# Altium footprint library BSPO.PcbLib: 178 footprints (part 5 of 12)
Each footprint in its own frame and in the unit in brackets; x right, y up, seen from the top. Pads: shape width x height; smd on the part's side, far side on the other; paste and mask are expansions set on the pad; w line width, h text height; cw(c..) or ccw(c..) is an arc to the next point about the centre after c.
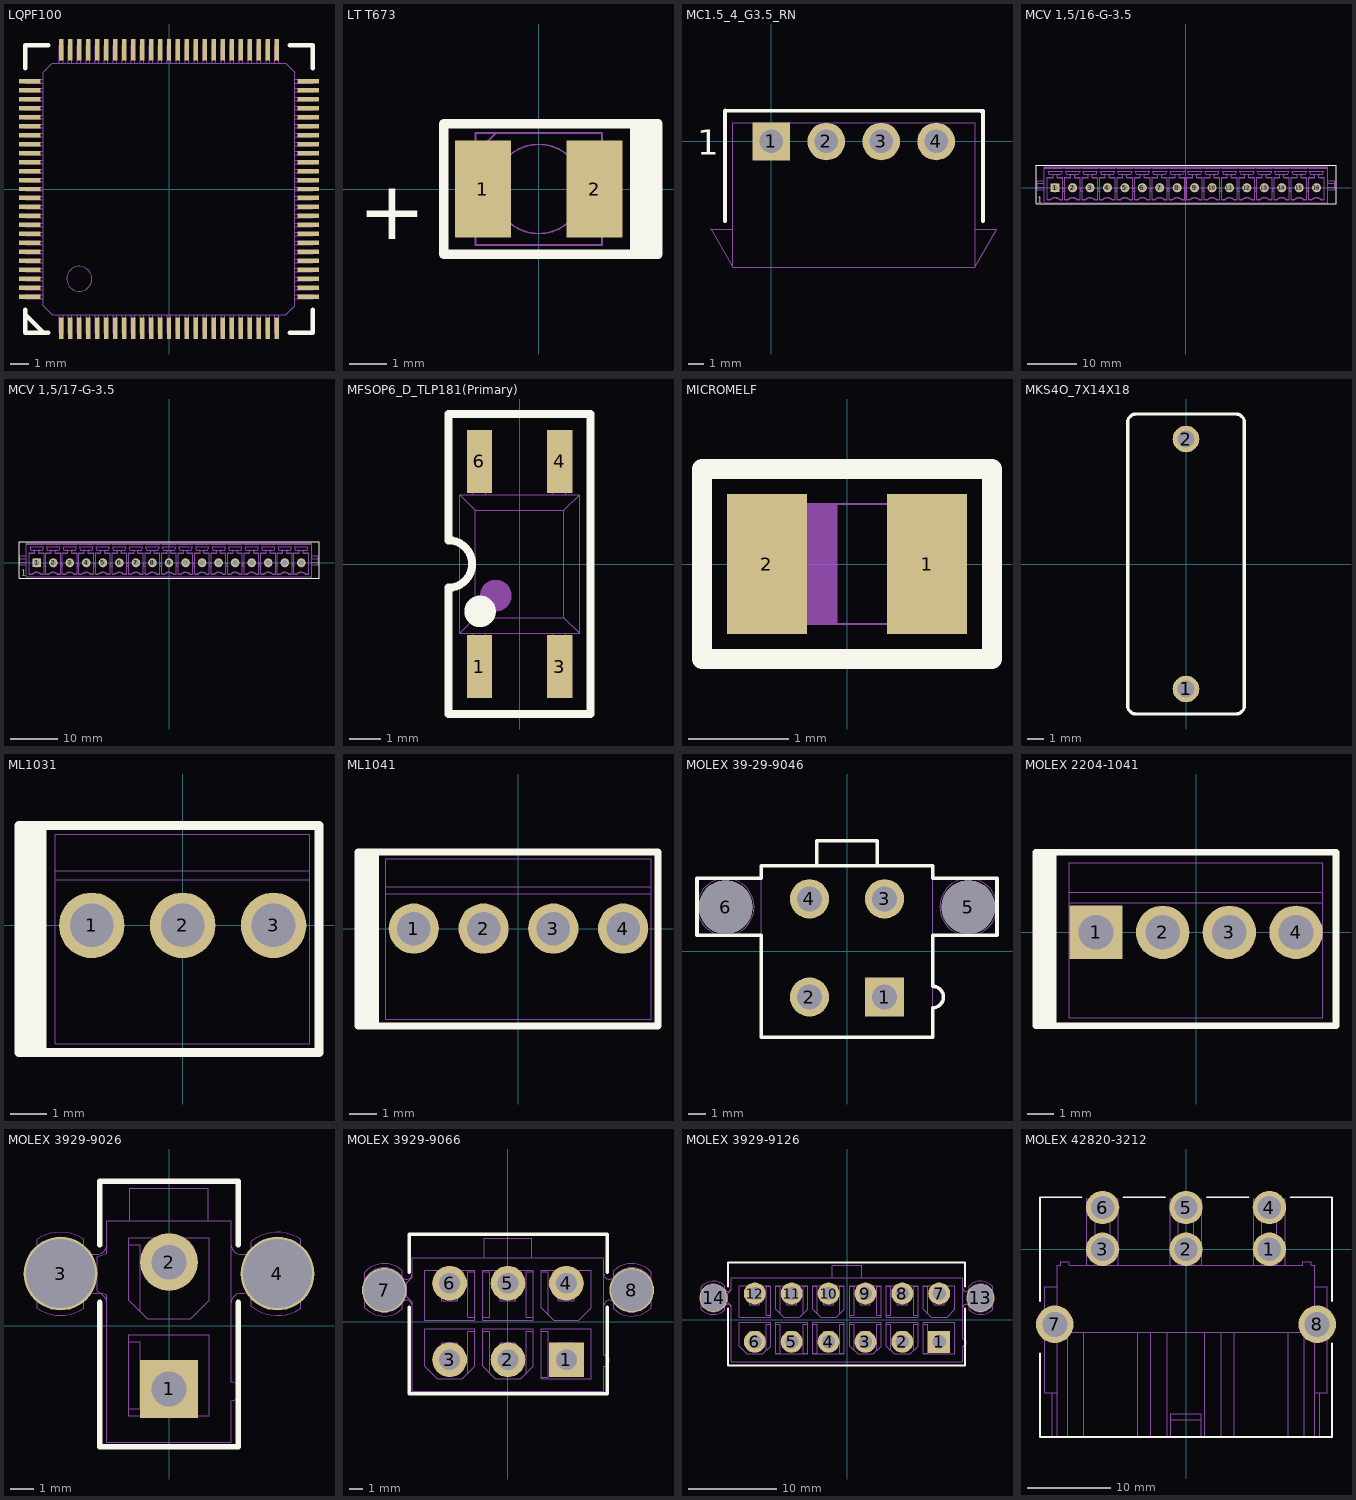
[diagram p4: the footprints below, top view; thin cyan lines are the x and y axes]

## LQPF100 [mm]
pads (100):
  rect 0.25x1.2 smd: 1(-6,-7.75) 2(-5.5,-7.75) 3(-5,-7.75) 4(-4.5,-7.75) 5(-4,-7.75) 6(-3.5,-7.75) 7(-3,-7.75) 8(-2.5,-7.75) 9(-2,-7.75) 10(-1.5,-7.75) 11(-1,-7.75) 12(-0.5,-7.75) 13(0,-7.75) 14(0.5,-7.75) 15(1,-7.75) 16(1.5,-7.75) 17(2,-7.75) 18(2.5,-7.75) 19(3,-7.75) 20(3.5,-7.75) 21(4,-7.75) 22(4.5,-7.75) 23(5,-7.75) 24(5.5,-7.75) 25(6,-7.75) 51(6,7.75) 52(5.5,7.75) 53(5,7.75) 54(4.5,7.75) 55(4,7.75) 56(3.5,7.75) 57(3,7.75) 58(2.5,7.75) 59(2,7.75) 60(1.5,7.75) 61(1,7.75) 62(0.5,7.75) 63(0,7.75) 64(-0.5,7.75) 65(-1,7.75) 66(-1.5,7.75) 67(-2,7.75) 68(-2.5,7.75) 69(-3,7.75) 70(-3.5,7.75) 71(-4,7.75) 72(-4.5,7.75) 73(-5,7.75) 74(-5.5,7.75) 75(-6,7.75)
  rect 1.2x0.25 smd: 26(7.75,-6) 27(7.75,-5.5) 28(7.75,-5) 29(7.75,-4.5) 30(7.75,-4) 31(7.75,-3.5) 32(7.75,-3) 33(7.75,-2.5) 34(7.75,-2) 35(7.75,-1.5) 36(7.75,-1) 37(7.75,-0.5) 38(7.75,0) 39(7.75,0.5) 40(7.75,1) 41(7.75,1.5) 42(7.75,2) 43(7.75,2.5) 44(7.75,3) 45(7.75,3.5) 46(7.75,4) 47(7.75,4.5) 48(7.75,5) 49(7.75,5.5) 50(7.75,6) 76(-7.75,6) 77(-7.75,5.5) 78(-7.75,5) 79(-7.75,4.5) 80(-7.75,4) 81(-7.75,3.5) 82(-7.75,3) 83(-7.75,2.5) 84(-7.75,2) 85(-7.75,1.5) 86(-7.75,1) 87(-7.75,0.5) 88(-7.75,0) 89(-7.75,-0.5) 90(-7.75,-1) 91(-7.75,-1.5) 92(-7.75,-2) 93(-7.75,-2.5) 94(-7.75,-3) 95(-7.75,-3.5) 96(-7.75,-4) 97(-7.75,-4.5) 98(-7.75,-5) 99(-7.75,-5.5) 100(-7.75,-6)
Top Overlay:
  lines w0.254: -8.001,-6.985 -6.985,-8.001 ; -8.001,-6.731 -8,-8 -6.731,-8.001 ; -8.001,6.731 -8,8 -6.731,8.001 ; 6.731,-8.001 8,-8 8.001,-6.731 ; 6.731,8.001 8,8 8.001,6.731
Mechanical 1:
  drawing of 309 lines, arcs and shapes, not listed

## LT T673 [mm]
pads (2):
  rect 1.5x2.6 smd: 1(-1.5,0) 2(1.5,0)
Top Overlay:
  region: 2.45,1.75 2.45,-1.75 3.2,-1.75 3.2,1.75
  lines w0.25: -2.55,-1.75 3.2,-1.75 3.2,1.75 -2.55,1.75 -2.55,-1.75
  text "+" at -4.85,-1.35 h1.59
Mechanical 1:
  circle w0.05: c0,0 r1.2
  lines w0.05: -1.7,-1.15 -1.85,-1.15 -1.85,1.15 -1.7,1.15 ; -1.7,0.95 -1.15,1.5 ; 1.7,-1.15 1.85,-1.15 1.85,1.15 1.7,1.15 ; -1.7,-1.5 1.7,-1.5 1.7,1.5 -1.7,1.5 -1.7,-1.5

## MC1.5_4_G3.5_RN [mm]
pads (4):
  rect 2.4x2.4 hole 1.5: 1(0,0)
  round 2.4 hole 1.5: 2(3.5,0) 3(7,0) 4(10.5,0)
Top Overlay:
  lines w0.25: -2.95,-5.06 -2.95,1.94 ; -2.94,1.96 13.37,1.95 ; 13.48,-5.07 13.48,1.93
  text "1" at -4.74,-0.84 h1.59
Mechanical 1:
  lines w0.05: -3.87,-5.58 -2.47,-5.58 ; -3.87,-5.57 -2.47,-8.02 ; -2.47,-8.01 -2.47,1.19 12.93,1.19 ; -2.46,-8.02 12.94,-8.02 ; 12.97,-8.02 14.38,-5.58 12.98,-5.58 ; 12.98,-8.01 12.98,1.19

## MCV 1,5/16-G-3.5 [mm]
pads (16):
  rect 1.8x1.8 hole 1.2: 1(-26.25,0)
  round 1.8 hole 1.2: 2(-22.75,0) 3(-19.25,0) 4(-15.75,0) 5(-12.25,0) 6(-8.75,0) 7(-5.25,0) 8(-1.75,0) 9(1.75,0) 10(5.25,0) 11(8.75,0) 12(12.25,0) 13(15.75,0) 14(19.25,0) 15(22.75,0) 16(26.25,0)
Top Overlay:
  lines w0.2: -30.1,-3.25 30.15,-3.25 30.15,4.5 -30.1,4.5 -30.1,-3.25
  text "1" at -29.85,-3 h1.25
Mechanical 1:
  drawing of 7789 lines, arcs and shapes, not listed

## MCV 1,5/17-G-3.5 [mm]
pads (17):
  rect 1.8x1.8 hole 1.2: 1(-28,0)
  round 1.8 hole 1.2: 2(-24.5,0) 3(-21,0) 4(-17.5,0) 5(-14,0) 6(-10.5,0) 7(-7,0) 8(-3.5,0) 9(0,0) 10(3.5,0) 11(7,0) 12(10.5,0) 13(14,0) 14(17.5,0) 15(21,0) 16(24.5,0) 17(28,0)
Top Overlay:
  lines w0.2: -31.75,-3.25 31.75,-3.25 31.75,4.5 -31.75,4.5 -31.75,-3.25
  text "1" at -31.25,-2.75 h1.25
Mechanical 1:
  drawing of 8240 lines, arcs and shapes, not listed

## MFSOP6_D_TLP181(Primary) [mm]
pads (4):
  rect 0.8x2 smd: 1(-1.27,-3.25) 3(1.27,-3.25) 4(1.27,3.25) 6(-1.27,3.25)
Top Overlay:
  circle w0.5: c-1.25,-1.5 r0.25
  lines w0.25: -2.25,-4.75 2.25,-4.75 2.25,4.75 -2.25,4.75 -2.25,0.75 cw(c-2.25,0) -2.25,-0.75 -2.25,-4.75
Mechanical 1:
  circle w0.5: c-0.75,-1 r0.25
  lines w0.025: -1.47,-2.2 -1.47,-3.7 -1.07,-3.7 -1.07,-2.2 ; -1.47,2.2 -1.47,3.7 -1.07,3.7 -1.07,2.2 ; 1.07,-2.2 1.07,-3.7 1.47,-3.7 1.47,-2.2 ; 1.07,2.2 1.07,3.7 1.47,3.7 1.47,2.2 ; -1.9,-2.2 1.9,-2.2 ; -1.9,-2.2 -1.9,2.2 ; -1.9,-2.2 -1.4,-1.7 ; -1.9,2.2 1.9,2.2 ; -1.9,2.2 -1.4,1.7 ; -1.4,-1.7 1.4,-1.7 ; -1.4,-1.7 -1.4,1.7 ; -1.4,1.7 1.4,1.7 ; 1.4,-1.7 1.4,1.7 ; 1.4,-1.7 1.9,-2.2 ; 1.4,1.7 1.9,2.2 ; 1.9,-2.2 1.9,2.2

## MICROMELF [mm]
pads (2):
  rect 0.8x1.4 smd: 1(0.8,0) 2(-0.8,0)
Top Overlay:
  lines w0.2: -1.45,-0.95 1.45,-0.95 1.45,0.95 -1.45,0.95 -1.45,-0.95
Mechanical 1:
  region: -0.4,0.6 -0.4,-0.6 -0.1,-0.6 -0.1,0.6
  lines w0.02: -0.75,-0.45 -0.65,-0.45 ; -0.75,0.45 -0.65,0.45 ; 0.75,-0.45 cw(c0.6,-0.45) 0.6,-0.6 -0.5,-0.6 cw(c-0.5,-0.45) -0.65,-0.45 ; 0.75,0.45 ccw(c0.6,0.45) 0.6,0.6 -0.5,0.6 ccw(c-0.5,0.45) -0.65,0.45 ; -0.65,-0.45 -0.65,0.45 ; -1,-0.6 -1,0.6 -0.75,0.6 -0.75,-0.6 -1,-0.6 ; 0.75,-0.6 0.75,0.6 1,0.6 1,-0.6 0.75,-0.6

## MKS4O_7X14X18 [mm]
pads (2):
  round 1.6 hole 1: 1(0,-7.5) 2(0,7.5)
Top Overlay:
  lines w0.2: -3.5,-8.5 ccw(c-3,-8.5) -3,-9 3,-9 ccw(c3,-8.5) 3.5,-8.5 3.5,8.5 ccw(c3,8.5) 3,9 -3,9 ccw(c-3,8.5) -3.5,8.5 -3.5,-8.5
Mechanical 1:
  lines w0.02: -3.5,-8.5 ccw(c-3,-8.5) -3,-9 3,-9 ccw(c3,-8.5) 3.5,-8.5 3.5,8.5 ccw(c3,8.5) 3,9 -3,9 ccw(c-3,8.5) -3.5,8.5 -3.5,-8.5

## ML1031 [mm]
pads (3):
  round 1.8 hole 1.2: 1(-2.5,0) 2(0,0) 3(2.5,0)
Top Overlay:
  region: -4.5,-3.5 -3.75,-3.5 -3.75,2.75 -4.5,2.75
  lines w0.25: -4.5,-3.5 3.75,-3.5 3.75,2.75 -4.5,2.75 -4.5,-3.5
Mechanical 1:
  lines w0.02: -3.5,1.25 3.5,1.25 ; -3.5,1.5 3.5,1.5 ; -2.875,-0.375 -2.125,0.375 ; -2.875,-0.375 -2.875,0.375 ; -2.875,-0.375 -2.125,-0.375 ; -2.875,0.375 -2.125,-0.375 ; -2.875,0.375 -2.125,0.375 ; -2.125,-0.375 -2.125,0.375 ; -0.375,-0.375 0.375,0.375 ; -0.375,-0.375 0.375,-0.375 ; -0.375,-0.375 -0.375,0.375 ; -0.375,0.375 0.375,-0.375 ; -0.375,0.375 0.375,0.375 ; 0.375,-0.375 0.375,0.375 ; 2.125,-0.375 2.875,0.375 ; 2.125,-0.375 2.125,0.375 ; 2.125,-0.375 2.875,-0.375 ; 2.125,0.375 2.875,-0.375 ; 2.125,0.375 2.875,0.375 ; 2.875,-0.375 2.875,0.375 ; -3.5,-3.25 3.5,-3.25 3.5,2.5 -3.5,2.5 -3.5,-3.25

## ML1041 [mm]
pads (4):
  round 1.8 hole 1.2: 1(-3.75,0) 2(-1.25,0) 3(1.25,0) 4(3.75,0)
Top Overlay:
  region: -5.75,-3.5 -5,-3.5 -5,2.75 -5.75,2.75
  lines w0.25: -5.75,-3.5 5,-3.5 5,2.75 -5.75,2.75 -5.75,-3.5
Mechanical 1:
  lines w0.02: -4.75,1.25 4.75,1.25 ; -4.75,1.5 4.75,1.5 ; -4.125,-0.375 -3.375,0.375 ; -4.125,-0.375 -4.125,0.375 ; -4.125,-0.375 -3.375,-0.375 ; -4.125,0.375 -3.375,-0.375 ; -4.125,0.375 -3.375,0.375 ; -3.375,-0.375 -3.375,0.375 ; -1.625,-0.375 -0.875,0.375 ; -1.625,-0.375 -1.625,0.375 ; -1.625,-0.375 -0.875,-0.375 ; -1.625,0.375 -0.875,-0.375 ; -1.625,0.375 -0.875,0.375 ; -0.875,-0.375 -0.875,0.375 ; 0.875,-0.375 1.625,0.375 ; 0.875,-0.375 0.875,0.375 ; 0.875,-0.375 1.625,-0.375 ; 0.875,0.375 1.625,-0.375 ; 0.875,0.375 1.625,0.375 ; 1.625,-0.375 1.625,0.375 ; 3.375,-0.375 4.125,0.375 ; 3.375,-0.375 3.375,0.375 ; 3.375,-0.375 4.125,-0.375 ; 3.375,0.375 4.125,-0.375 ; 3.375,0.375 4.125,0.375 ; 4.125,-0.375 4.125,0.375 ; -4.75,-3.25 4.75,-3.25 4.75,2.5 -4.75,2.5 -4.75,-3.25

## MOLEX 39-29-9046 [mm]
pads (6):
  rect 2.2x2.2 hole 1.4: 1(2.1,-2.55)
  round 2.2 hole 1.4: 2(-2.1,-2.55) 3(2.1,2.95) 4(-2.1,2.95)
  round 3 hole 3 unplated: 5(6.8,2.49) 6(-6.8,2.49)
Top Overlay:
  lines w0.2: -1.7,4.8 -1.7,6.2 1.7,6.2 1.7,4.8 ; -8.4,0.9 -4.8,0.9 -4.8,-4.8 4.8,-4.8 4.8,-3.15 ccw(c4.8,-2.55) 4.8,-1.95 4.8,0.9 8.4,0.9 8.4,4.1 4.8,4.1 4.8,4.8 -4.8,4.8 -4.8,4.1 -8.4,4.1 -8.4,0.9
Mechanical 1:
  circle w0.02: c-6.8,2.495 r1.6
  circle w0.02: c6.8,2.495 r1.6
  lines w0.02: -1.7,4.8 -1.7,6.2 0,6.2 1.7,6.2 1.7,4.8 ; 4.8,-3.15 ccw(c4.8,-2.55) 4.8,-1.95 ; -4.8,-4.8 4.8,-4.8 4.8,4.8 -4.8,4.8 -4.8,-4.8

## MOLEX 2204-1041 [mm]
pads (4):
  rect 2x2 hole 1.3: 1(-3.75,0)
  round 2 hole 1.3: 2(-1.25,0) 3(1.25,0) 4(3.75,0)
Top Overlay:
  region: -6,-3.5 -5.25,-3.5 -5.25,3 -6,3
  lines w0.25: -5.5,3 5.25,3 5.25,-3.5 -6,-3.5 -6,3 -5,3
Mechanical 1:
  lines w0.02: -4.75,1.1 4.75,1.1 ; -4.75,1.5 4.75,1.5 ; -4.75,-3.2 4.75,-3.2 4.75,2.6 -4.75,2.6 -4.75,-3.2 ; -4.125,-0.375 -4.125,0.375 -3.375,0.375 -3.375,-0.375 -4.125,-0.375 ; -1.625,-0.375 -0.875,-0.375 -0.875,0.375 -1.625,0.375 -1.625,-0.375 ; 0.875,-0.375 0.875,0.375 1.625,0.375 1.625,-0.375 0.875,-0.375 ; 3.375,-0.375 3.375,0.375 4.125,0.375 4.125,-0.375 3.375,-0.375

## MOLEX 3929-9026 [mm]
pads (4):
  rect 2.5x2.5 hole 1.5: 1(0,-2.75)
  round 2.5 hole 1.5: 2(0,2.75)
  round 3.2 hole 3 unplated: 3(-4.7,2.25) 4(4.7,2.25)
Top Overlay:
  lines w0.25: -3,1 -3,-5.25 3,-5.25 3,1 ; -3,3.5 -3,6.25 3,6.25 3,3.5
Mechanical 1:
  lines w0.02: -5.7,0.743 -5.7,1.121 -5.7,3.357 -5.7,3.736 ; -3.7,0.743 -3.7,1.121 ; -3.7,3.357 -3.7,3.736 ; -3.27,1.389 -3.1,1.389 ; -3.27,3.089 -3.1,3.089 ; -1.75,-3.601 -1.25,-3.601 -1.25,-0.701 -1.75,-0.701 ; -1.75,3.499 -1.25,3.499 -1.25,0.599 ; 2.7,-3.251 2.7,-5.051 -2.7,-5.051 -2.7,1.339 -3.1,1.489 -3.1,2.989 -2.7,3.139 -2.7,4.549 -1.7,4.549 ; 2.7,-2.451 2.7,4.549 1.7,4.549 ; 3.1,1.389 3.269,1.389 ; 3.1,3.089 3.269,3.089 ; 3.57,0.838 3.57,1.252 ; 3.57,3.226 3.57,3.641 ; 5.7,0.743 5.7,1.121 5.7,3.357 5.7,3.736 ; -1.7,4.549 1.7,4.549 ; -1.7,4.549 -1.7,5.949 1.7,5.949 1.7,4.549 ; -1.75,-3.901 1.75,-3.901 1.75,-0.401 -1.75,-0.401 -1.75,-3.901 ; -1.75,1.099 -1.75,3.799 1.75,3.799 1.75,1.099 0.95,0.299 -0.95,0.299 -1.75,1.099 ; -0.57,-2.451 0.57,-2.451 0.57,-1.851 -0.57,-1.851 -0.57,-2.451 ; -0.57,1.749 0.57,1.749 0.57,2.349 -0.57,2.349 -0.57,1.749
  lines w0.025: -5.702,0.743 ccw(c-4.7,2.239) -3.702,0.742 ; -5.702,1.123 ccw(c-4.7,2.239) -3.572,1.251 ; -5.7,3.357 cw(c-4.7,2.239) -3.57,3.225 ; -5.699,3.737 cw(c-4.7,2.239) -3.699,3.735 ; -3.571,3.226 ccw(c-3.27,3.489) -3.27,3.089 ; -3.57,1.253 cw(c-3.27,0.989) -3.27,1.389 ; -3.1,1.389 cw(c-3.1,0.989) -2.7,0.989 ; -3.1,3.089 ccw(c-3.1,3.489) -2.7,3.489 ; 2.7,-3.251 ccw(c2.7,-2.851) 3.1,-2.851 ccw(c2.7,-2.851) 2.7,-2.451 ; 2.7,0.989 cw(c3.1,0.989) 3.1,1.389 ; 2.7,3.489 ccw(c3.1,3.489) 3.1,3.089 ; 3.269,1.389 cw(c3.269,0.989) 3.57,1.252 ; 3.269,3.089 ccw(c3.269,3.489) 3.57,3.226 ; 3.569,0.838 ccw(c4.7,2.239) 5.698,0.742 ; 3.569,1.253 ccw(c4.7,2.239) 5.699,1.121 ; 3.571,3.227 cw(c4.7,2.239) 5.701,3.356 ; 3.572,3.642 cw(c4.7,2.239) 5.701,3.735

## MOLEX 3929-9066 [mm]
pads (8):
  rect 2.5x2.5 hole 1.5: 1(4.2,-2.74)
  round 2.5 hole 1.5: 2(0,-2.74) 3(-4.2,-2.74) 4(4.2,2.76) 5(0,2.76) 6(-4.2,2.76)
  round 3.2 hole 3 unplated: 7(-8.9,2.26) 8(8.9,2.26)
Top Overlay:
  lines w0.25: -7.1,1.05 -7.1,-5.2 7.15,-5.2 7.15,1.05 ; -7.1,3.55 -7.1,6.3 7.15,6.3 7.15,3.55
Mechanical 1:
  lines w0.02: -10.29,1.011 ccw(c-8.9,2.289) -7.602,0.917 ; -10.29,1.519 ccw(c-8.9,2.289) -7.6,1.376 ; -10.289,1.009 -10.289,1.518 -10.289,3.061 -10.289,3.57 cw(c-8.9,2.289) -7.6,3.66 -7.6,3.203 ; -10.288,3.062 cw(c-8.9,2.289) -7.598,3.201 ; -7.6,0.919 -7.6,1.376 ; -7.6,3.204 ccw(c-7.285,3.424) -6.9,3.424 ; -6.9,1.154 ccw(c-7.285,1.154) -7.6,1.376 ; -2.9,-3.701 -2.9,-0.701 -2.4,-0.701 ; -2.4,0.299 -2.9,0.299 -2.9,3.599 -2.4,3.599 ; -1.8,-0.701 -1.3,-0.701 -1.3,-3.701 ; -1.8,0.299 -1.3,0.299 -1.3,3.599 -1.8,3.599 ; 1.3,-3.701 1.3,-0.701 1.8,-0.701 ; 1.8,0.299 1.3,0.299 1.3,3.599 1.8,3.599 ; 2.4,-4.001 2.9,-4.001 2.9,-0.701 2.4,-0.701 ; 2.4,3.599 2.9,3.599 2.9,0.499 ; 6.9,1.154 cw(c7.285,1.154) 7.601,1.375 ; 6.9,3.424 ccw(c7.285,3.424) 7.6,3.203 ; 7.599,1.378 ccw(c8.9,2.289) 10.289,1.517 ; 7.6,1.376 7.6,0.919 ccw(c8.9,2.289) 10.288,1.008 ; 7.6,3.66 7.6,3.203 ; 7.602,3.662 cw(c8.9,2.289) 10.291,3.568 ; 10.289,1.009 10.289,1.518 10.289,3.061 10.289,3.57 ; 10.29,3.06 ccw(c8.9,2.289) 7.6,3.203 ; -4.77,-2.651 -4.77,-1.511 -3.63,-1.511 -3.63,-2.651 ; -4.77,-2.651 -4.77,-3.051 -3.63,-3.051 -3.63,-2.651 ; -4.77,-2.651 -3.63,-2.651 ; -4.77,2.649 -4.77,1.509 -3.63,1.509 -3.63,2.649 ; -4.77,2.649 -4.77,3.049 -3.63,3.049 -3.63,2.649 ; -4.77,2.649 -3.63,2.649 ; -1.7,4.599 1.7,4.599 ; -1.7,4.599 -6.9,4.599 -6.9,3.189 -7.3,2.789 -7.3,1.789 -6.9,1.389 -6.9,-5.001 6.9,-5.001 6.9,-3.201 ccw(c6.9,-2.801) 7.3,-2.801 ccw(c6.9,-2.801) 6.9,-2.401 6.9,4.599 1.7,4.599 ; -1.7,4.599 -1.7,5.999 1.7,5.999 1.7,4.599 ; -0.57,-2.651 0.57,-2.651 ; -0.57,-2.651 -0.57,-1.511 0.57,-1.511 0.57,-2.651 ; -0.57,-2.651 -0.57,-3.051 0.57,-3.051 0.57,-2.651 ; -0.57,2.649 0.57,2.649 ; -0.57,2.649 -0.57,1.509 0.57,1.509 0.57,2.649 ; -0.57,2.649 -0.57,3.049 0.57,3.049 0.57,2.649 ; 3.63,-2.651 3.63,-1.511 4.77,-1.511 4.77,-2.651 ; 3.63,-2.651 3.63,-3.051 4.77,-3.051 4.77,-2.651 ; 3.63,-2.651 4.77,-2.651 ; 3.63,2.649 3.63,1.509 4.77,1.509 4.77,2.649 ; 3.63,2.649 3.63,3.049 4.77,3.049 4.77,2.649 ; 3.63,2.649 4.77,2.649 ; -6,-3.201 -6,-0.501 -2.4,-0.501 -2.4,-3.201 -3.3,-4.101 -5.1,-4.101 -6,-3.201 ; -6,0.099 -6,3.699 -2.4,3.699 -2.4,0.099 -6,0.099 ; -1.8,-3.201 -1.8,-0.501 1.8,-0.501 1.8,-3.201 0.9,-4.101 -0.9,-4.101 -1.8,-3.201 ; -1.8,0.099 1.8,0.099 1.8,3.699 -1.8,3.699 -1.8,0.099 ; 2.4,-4.101 6,-4.101 6,-0.501 2.4,-0.501 2.4,-4.101 ; 2.4,0.999 2.4,3.699 6,3.699 6,0.999 5.1,0.099 3.3,0.099 2.4,0.999

## MOLEX 3929-9126 [mm]
pads (14):
  rect 2.5x2.5 hole 1.5: 1(10.5,-2.51)
  round 2.5 hole 1.5: 2(6.3,-2.51) 3(2.1,-2.51) 4(-2.1,-2.51) 5(-6.3,-2.51) 6(-10.5,-2.51) 7(10.5,2.99) 8(6.3,2.99) 9(2.1,2.99) 10(-2.1,2.99) 11(-6.3,2.99) 12(-10.5,2.99)
  round 3.2 hole 3 unplated: 13(15.2,2.49) 14(-15.2,2.49)
Top Overlay:
  lines w0.25: -13.55,1.28 -13.55,-5.22 13.45,-5.22 13.45,1.28 ; -13.55,3.78 -13.55,6.53 13.45,6.53 13.45,3.78
Mechanical 1:
  drawing of 232 lines, arcs and shapes, not listed

## MOLEX 42820-3212 [mm]
pads (8):
  round 4 hole 2.8: 1(10,0) 2(0,0) 3(-10,0) 4(10,5) 5(0,5) 6(-10,5)
  round 4.5 hole 3: 7(-15.73,-9) 8(15.73,-9)
Top Overlay:
  lines w0.2: -17.5,-12.5 -17.5,-22.5 17.5,-22.5 17.5,-11.25 ; -17.5,-6.25 -17.5,6.25 -12.5,6.25 ; -7.5,6.25 -2.5,6.25 ; 2.5,6.25 7.5,6.25 ; 12.5,6.25 17.5,6.25 17.5,-6.25
Mechanical 1:
  lines w0.001: -16.05,-17.17 -16.05,-22.52 -15.45,-22.52 ; -15.45,-17.17 -16.91,-17.17 -16.91,-10.92 ; -15.45,-10.92 -16.91,-10.92 ; -15.45,-4.52 -16.91,-4.52 -16.91,-7.32 ; -14.2,-9.92 -14.2,-22.52 ; -12.273,-9.92 -12.273,-22.52 ; -11.9,-1.92 -11.9,4.138 -11.9,6.08 -11.5,6.08 ; -11.895,4.08 -10.9,4.08 ; -11.5,4.138 -11.5,6.08 ; -11.249,4.08 -11.249,6.08 ; -10.9,-1.92 -10.9,4.08 ; -10.8,6.08 -11.249,6.08 ; -9.2,6.08 -8.751,6.08 ; -9.1,-1.92 -9.1,4.08 ; -8.751,4.08 -8.751,6.08 ; -8.5,4.138 -8.5,6.08 ; -8.105,4.08 -9.1,4.08 ; -8.1,-1.92 -8.1,4.138 -8.1,6.08 -8.5,6.08 ; -5.8,-9.92 -5.8,-22.52 ; -4.2,-9.92 -4.2,-22.52 ; -2.273,-9.92 -2.273,-22.52 ; -1.9,-1.92 -1.9,4.138 -1.9,6.08 -1.5,6.08 ; -1.895,4.08 -0.9,4.08 ; -1.5,4.138 -1.5,6.08 ; -1.249,4.08 -1.249,6.08 ; -0.9,-1.92 -0.9,4.08 ; -0.8,6.08 -1.249,6.08 ; 0.8,6.08 1.249,6.08 ; 0.9,-1.92 0.9,4.08 ; 1.249,4.08 1.249,6.08 ; 1.5,4.138 1.5,6.08 ; 1.895,4.08 0.9,4.08 ; 1.9,-1.92 1.9,4.138 1.9,6.08 1.5,6.08 ; 2.273,-9.92 2.273,-22.52 ; 4.2,-9.92 4.2,-22.52 ; 5.8,-9.92 5.8,-22.52 ; 8.1,-1.92 8.1,4.138 8.1,6.08 8.5,6.08 ; 8.105,4.08 9.1,4.08 ; 8.5,4.138 8.5,6.08 ; 8.751,4.08 8.751,6.08 ; 9.1,-1.92 9.1,4.08 ; 9.2,6.08 8.751,6.08 ; 10.8,6.08 11.249,6.08 ; 10.9,-1.92 10.9,4.08 ; 11.249,4.08 11.249,6.08 ; 11.5,4.138 11.5,6.08 ; 11.895,4.08 10.9,4.08 ; 11.9,-1.92 11.9,4.138 11.9,6.08 11.5,6.08 ; 12.273,-9.92 12.273,-22.52 ; 14.2,-9.92 14.2,-22.52 ; 15.45,-17.17 16.91,-17.17 16.91,-10.92 ; 15.45,-10.92 16.91,-10.92 ; 15.45,-4.52 16.91,-4.52 16.91,-7.32 ; 16.05,-17.17 16.05,-22.52 15.45,-22.52 ; -16.91,-10.92 -16.91,-9.92 ; -16.91,-9.92 -16.91,-7.32 ; -16.91,-9.92 -15.95,-9.92 ; -16.91,-7.32 -15.95,-7.32 -15.95,-9.92 ; -15.95,-9.92 -15.45,-9.92 ; -15.45,-22.52 -15.45,-9.92 ; -15.45,-22.52 -14.2,-22.52 ; -15.45,-9.92 15.45,-9.92 ; -15.45,-9.92 -15.45,-1.92 -15,-1.92 -15,-1.52 -14,-1.52 -14,-1.92 14,-1.92 14,-1.52 15,-1.52 15,-1.92 15.45,-1.92 15.45,-9.92 ; -14.2,-22.52 -12.273,-22.52 ; -12.273,-22.52 -5.8,-22.52 ; -11.5,6.08 -11.249,6.08 ; -10.9,4.08 -10.8,4.08 -10.8,6.58 -9.2,6.58 -9.2,4.08 -9.1,4.08 ; -8.751,6.08 -8.5,6.08 ; -5.8,-22.52 -4.2,-22.52 ; -4.2,-22.52 -2.273,-22.52 ; -2.273,-22.52 -1.8,-22.52 ; -1.8,-22.52 1.8,-22.52 ; -1.8,-22.52 -1.8,-20.42 ; -1.8,-20.42 1.8,-20.42 ; -1.8,-20.42 -1.8,-19.72 1.8,-19.72 1.8,-20.42 ; -1.5,6.08 -1.249,6.08 ; -0.9,4.08 -0.8,4.08 -0.8,6.58 0.8,6.58 0.8,4.08 0.9,4.08 ; 1.249,6.08 1.5,6.08 ; 1.8,-22.52 2.273,-22.52 ; 1.8,-22.52 1.8,-20.42 ; 2.273,-22.52 4.2,-22.52 ; 4.2,-22.52 5.8,-22.52 ; 5.8,-22.52 12.273,-22.52 ; 8.5,6.08 8.751,6.08 ; 9.1,4.08 9.2,4.08 9.2,6.58 10.8,6.58 10.8,4.08 10.9,4.08 ; 11.249,6.08 11.5,6.08 ; 12.273,-22.52 14.2,-22.52 ; 14.2,-22.52 15.45,-22.52 ; 15.45,-22.52 15.45,-9.92 ; 15.45,-9.92 15.95,-9.92 ; 15.95,-9.92 15.95,-7.32 16.91,-7.32 ; 15.95,-9.92 16.91,-9.92 ; 16.91,-10.92 16.91,-9.92 ; 16.91,-9.92 16.91,-7.32